# EAGLE library part ESP32-WROOM-32E-N16 (library ESP32-WROOM-32E-N16)
Bluetooth, WiFi 802.11b/g/n, Bluetooth v4.2 +EDR, Class 1, 2 and 3 Transceiver Module 2.4GHz ~ 2.5GHz Integrated, Trace Surface Mount Source: Datasheet <https://www.espressif.com/sites/default/files/documentation/esp32-wroom-32e_esp32-wroom-32ue_datasheet_en.pdf>
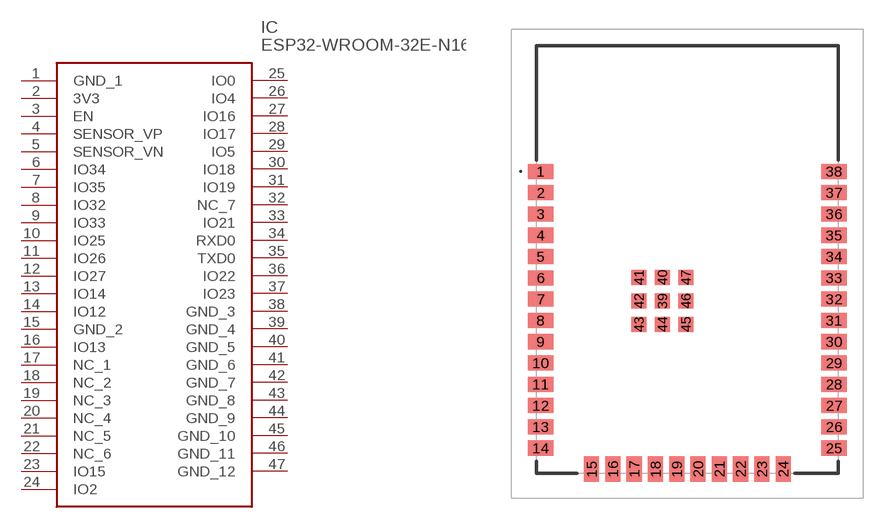
[diagram p0: symbol with the pads of ESP32WROOM32EN16; footprint ESP32WROOM32EN16]

Designator prefix IC

## ESP32-WROOM-32E-N16 (Description: Bluetooth, WiFi 802.11b/g/n, Bluetooth v4.2 +EDR, Class 1, 2 and 3 Transceiver Module 2.4GHz ~ 2.5GHz Integrated, Trace Surface Mount; Height: 3.25mm; Manufacturer_Name: Espressif Systems; Manufacturer_Part_Number: ESP32-WROOM-32E-N16; Mouser_Part_Number: 356-ESP32WRM32E128PH; Mouser_Price-Stock: https://www.mouser.co.uk/ProductDetail/Espressif-Systems/ESP32-WROOM-32E-N16?qs=Li%252BoUPsLEnsC4cA%252BUYB2Bw%3D%3D)  [ESP32WROOM32EN16]
1  GND_1
2  3V3
3  EN
4  SENSOR_VP
5  SENSOR_VN
6  IO34
7  IO35
8  IO32
9  IO33
10  IO25
11  IO26
12  IO27
13  IO14
14  IO12
15  GND_2
16  IO13
17  NC_1
18  NC_2
19  NC_3
20  NC_4
21  NC_5
22  NC_6
23  IO15
24  IO2
25  IO0
26  IO4
27  IO16
28  IO17
29  IO5
30  IO18
31  IO19
32  NC_7
33  IO21
34  RXD0
35  TXD0
36  IO22
37  IO23
38  GND_3
39  GND_4
40  GND_5
41  GND_6
42  GND_7
43  GND_8
44  GND_9
45  GND_10
46  GND_11
47  GND_12

## Footprint ESP32WROOM32EN16 (pad centres in mm)
38-SMD Module
smd 1.5 x 0.9: 1 -8.75,5.51; 2 -8.75,4.24; 3 -8.75,2.97; 4 -8.75,1.7; 5 -8.75,0.43; 6 -8.75,-0.84; 7 -8.75,-2.11; 8 -8.75,-3.38; 9 -8.75,-4.65; 10 -8.75,-5.92; 11 -8.75,-7.19; 12 -8.75,-8.46; 13 -8.75,-9.73; 14 -8.75,-11; 25 8.75,-11; 26 8.75,-9.73; 27 8.75,-8.46; 28 8.75,-7.19; 29 8.75,-5.92; 30 8.75,-4.65; 31 8.75,-3.38; 32 8.75,-2.11; 33 8.75,-0.84; 34 8.75,0.43; 35 8.75,1.7; 36 8.75,2.97; 37 8.75,4.24; 38 8.75,5.51
smd 0.9 x 1.5: 15 -5.715,-12.25; 16 -4.445,-12.25; 17 -3.175,-12.25; 18 -1.905,-12.25; 19 -0.635,-12.25; 20 0.635,-12.25; 21 1.905,-12.25; 22 3.175,-12.25; 23 4.445,-12.25; 24 5.715,-12.25
smd 0.9 x 0.9: 39 -1.5,-2.21; 40 -1.5,-0.81; 41 -2.9,-0.81; 42 -2.9,-2.21; 43 -2.9,-3.61; 44 -1.5,-3.61; 45 -0.1,-3.61; 46 -0.1,-2.21; 47 -0.1,-0.81